# Altium footprint library PCB - CONNECTOR - SAMTEC IPL1-110-01-L-D-RA-K.PCBLIB: 1 footprints
Each footprint in its own frame and in the unit in brackets; x right, y up, seen from the top. Pads: shape width x height; smd on the part's side, far side on the other; paste and mask are expansions set on the pad; w line width, h text height; cw(c..) or ccw(c..) is an arc to the next point about the centre after c.
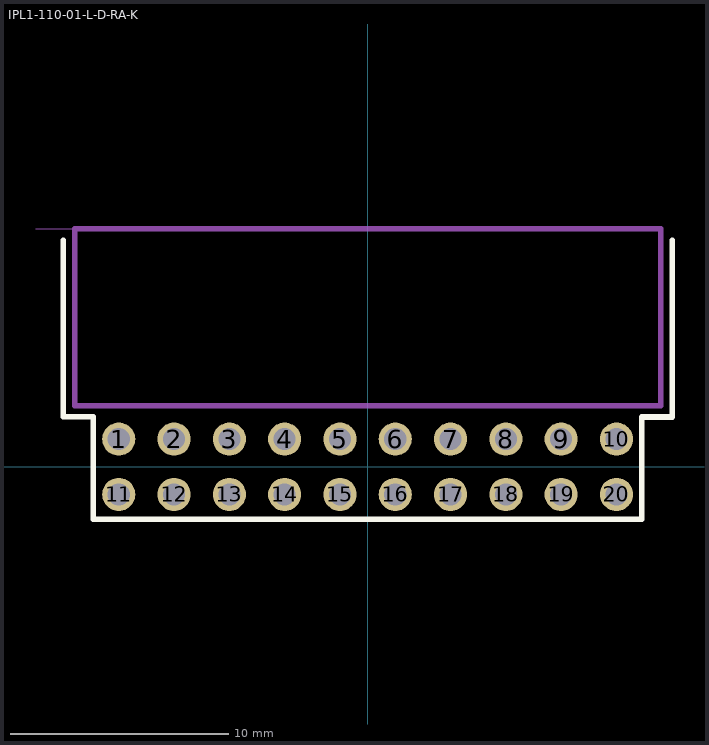
[diagram p0: the footprint, top view; thin cyan lines are the x and y axes]

## IPL1-110-01-L-D-RA-K [mil]
pads (20):
  round 60 hole 40 mask+3: 1(-450,50) 2(-350,50) 3(-250,50) 4(-150,50) 5(-50,50) 6(50,50) 7(150,50) 8(250,50) 9(350,50) 10(450,50) 11(-450,-50) 12(-350,-50) 13(-250,-50) 14(-150,-50) 15(-50,-50) 16(50,-50) 17(150,-50) 18(250,-50) 19(350,-50) 20(450,-50)
Top Overlay:
  lines w10: -550.79,410 -550.79,90.55 -495.79,90.55 -495.79,-94.49 495.79,-94.49 495.79,90 550.79,90 550.79,410
M5 Assembly Top:
  lines w10: -530,110 -530,430 530,430 530,110 -530,110
  text ".Designator" at -66.93,185.04 h60
Mechanical 16:
  lines w0.1: -600,430 200,430
3D body "IPL1-110-01-L-D-RA-K.stp": height 165, standoff -230, extent -530,-62.5 530,430